# Altium footprint library TX_fsi6.PcbLib: 25 footprints (part 1 of 2)
Each footprint in its own frame and in the unit in brackets; x right, y up, seen from the top. Pads: shape width x height; smd on the part's side, far side on the other; paste and mask are expansions set on the pad; w line width, h text height; cw(c..) or ccw(c..) is an arc to the next point about the centre after c.
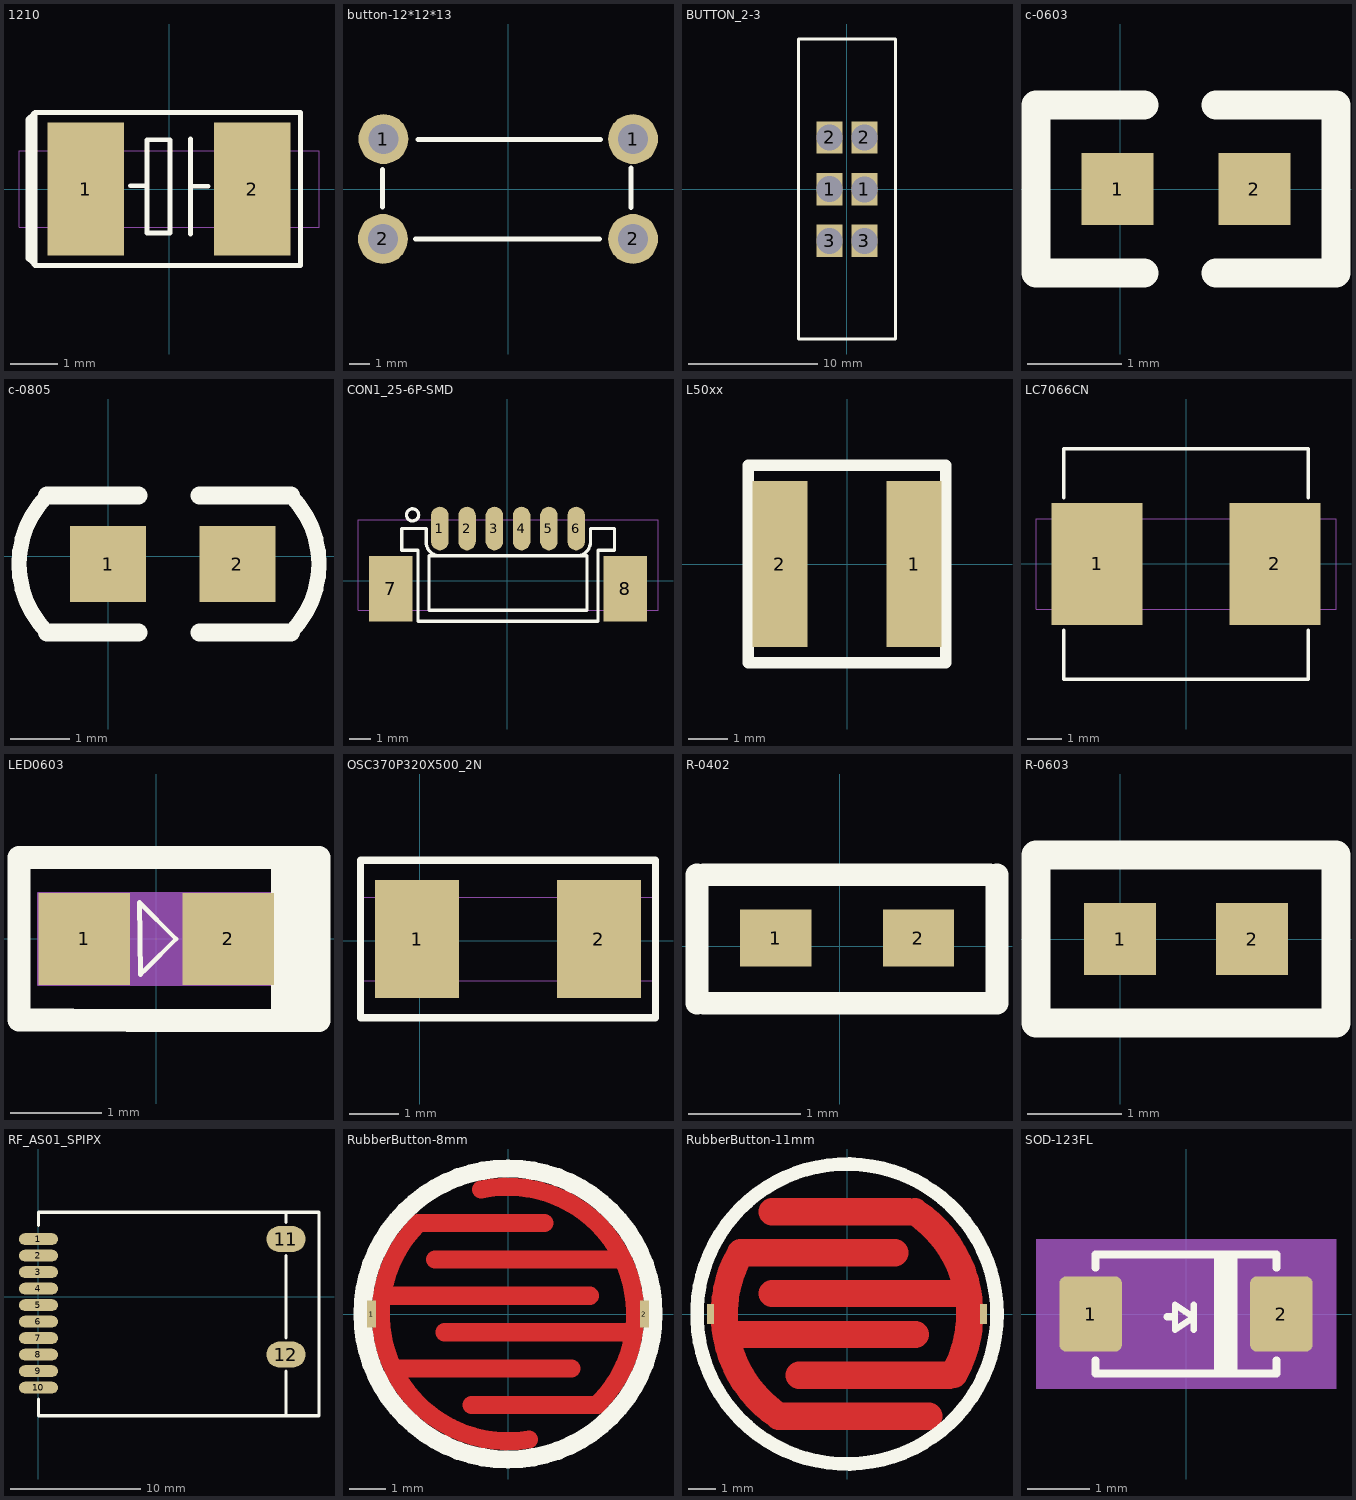
[diagram p0: the footprints below, top view; thin cyan lines are the x and y axes]

## 1210 [mil] "1210"
height 17.72
pads (2):
  rect 63x110 smd: 1(-68.7,0) 2(68.7,0)
Top Overlay:
  lines w3.94: -115.43,-58.27 -116.38,-57.32 -116.38,57.48 -111.71,62.15 ; -112.76,60.63 -113.78,59.61 -113.78,-59.61 -110.65,-62.74 ; -32.01,2.64 -20.2,2.64 ; 17.68,-37.17 17.68,41.46 ; 18.46,2.36 32.44,2.36 ; -110.43,-62.99 -110.43,62.99 108.43,62.99 108.43,-62.99 -110.43,-62.99 ; -18.15,-36.34 0.91,-36.34 0.91,40.67 -18.15,40.67 -18.15,-36.34
Mechanical 10:
  text "2" at 58.7,0 h25
  text "1" at -78.7,0 h25
Mechanical 11:
  lines w1: -123.7,-31.5 -123.7,31.5 123.7,31.5 123.7,-31.5 -123.7,-31.5
Mechanical 12:
  lines w1: -123.7,-31.5 -123.7,31.5 123.7,31.5 123.7,-31.5 -123.7,-31.5

## button-12*12*13 [mm]
pads (4):
  round 2.5 hole 1.5: 1(-6.248,2.515) 1(6.248,2.515) 2(-6.274,-2.489) 2(6.248,-2.489)
Top Overlay:
  lines w0.254: -6.299,-0.889 -6.299,0.991 ; -4.648,-2.489 4.572,-2.489 ; -4.521,2.489 4.623,2.489 ; 6.147,-0.914 6.147,1.067

## BUTTON_2-3 [mm]
pads (6):
  rect 2x2.5 hole 2: 1(-1.346,-0.012) 1(1.346,-0.025) 2(-1.346,3.988) 2(1.354,3.988) 3(-1.346,-4.012) 3(1.346,-4.013)
Top Overlay:
  lines w0.254: -3.75,11.558 -3.75,11.25 -3.75,-11.6 0,-11.6 3.759,-11.6 ; -3.75,11.6 0,11.6 3.75,11.6 ; 3.75,11.582 3.759,-11.582

## c-0603 [mil]
height 17.72
pads (2):
  rect 30x30 smd: 1(-1,0) 2(56,0)
Top Overlay:
  lines w12: 10,-35 -35,-35 -35,35 10,35 ; 40,-35 90,-35 90,35 40,35
3D body: height 35.43, standoff 0, extent -3.94,-15.75 59.06,15.75

## c-0805 [mil]
height 17.72
pads (2):
  rect 50x50 smd: 1(0,-5) 2(85,-5)
Top Overlay:
  lines w10: -40,-50 cw(c5,-5) -40,40 ; 120,-50 ccw(c75,-5) 120,40
  lines w12: -40,-50 20,-50 ; -40,40 20,40 ; 60,-50 120,-50 ; 60,40 120,40
3D body: height 23.62, standoff 0, extent 2.94,-29.53 81.68,19.68

## CON1_25-6P-SMD [mil]
height 17.72
pads (8):
  oval 31.5x78.7 smd: 1(-122,94) 2(-72.8,94) 3(-23.6,94) 4(25.6,94) 5(74.8,94) 6(124.1,94)
  rect 78.7x118.1 smd: 7(-210.6,-14.3) 8(212.6,-14.3)
Top Overlay:
  circle w5.9: c-171.2,118.6 r11
  lines w5.9: -190.9,54.6 -161.4,54.6 -161.4,-73.3 163.4,-73.3 163.4,54.6 193,54.6 193,94 149.7,94 149.7,69.4 cw(c125.1,69.4) 125,44.8 -122,44.8 cw(c-122,69.4) -146.6,69.4 -146.6,94 -190.9,94 -190.9,54.6 ; -141.7,-53.6 -141.7,44.8 143.7,44.8 143.7,-53.6 -141.7,-53.6
Mechanical 5:
  text "8" at 202.6,-14.3 h25
  text "7" at -220.6,-14.3 h25
  text "6" at 114.1,94 h25
  text "5" at 64.8,94 h25
  text "4" at 15.6,94 h25
  text "3" at -33.6,94 h25
  text "2" at -82.8,94 h25
  text "1" at -132,94 h25
Mechanical 6:
  lines w1: -269.6,-53.6 271.7,-53.6 271.7,109.7 -269.6,109.7 -269.6,-53.6
Mechanical 7:
  lines w1: -269.6,-53.6 271.7,-53.6 271.7,109.7 -269.6,109.7 -269.6,-53.6

## L50xx [mm]
pads (2):
  rect 1.4x4.2 smd: 1(1.7,0) 2(-1.7,0)
Top Overlay:
  lines w0.3: -2.5,-2.5 2.5,-2.5 2.5,2.5 -2.5,2.5 -2.5,-2.5

## LC7066CN [mm] "LC7066CN"
height 0.45
pads (2):
  rect 2.6x3.5 smd: 1(-2.55,0) 2(2.55,0)
Top Overlay:
  lines w0.1: -3.5,-1.9 -3.5,-3.3 3.5,-3.3 3.5,-1.9 ; -3.5,1.9 -3.5,3.3 3.5,3.3 3.5,1.9
Mechanical 14:
  lines w0.025: -4.3,-1.3 -4.3,1.3 4.3,1.3 4.3,-1.3 -4.3,-1.3
Mechanical 15:
  lines w0.025: -4.3,-1.3 -4.3,1.3 4.3,1.3 4.3,-1.3 -4.3,-1.3

## LED0603 [mm] "LED0603"
height 0.45
pads (2):
  rect 1x1 smd: 1(-0.787,0) 2(0.787,0)
Top Overlay:
  lines w0.051: -0.183,0.399 -0.172,-0.388 -0.111,-0.327 0.216,0 -0.183,0.399
  lines w0.254: -1.499,-0.882 -0.305,-0.889 0.305,-0.889 1.778,-0.889 1.778,0.889 0.305,0.889 -0.305,0.889 -1.499,0.889 -1.499,-0.882 ; 1.381,-0.889 1.381,0.879 1.391,0.889 1.565,0.889 1.565,-0.889 1.381,-0.889
Mechanical 11:
  lines w0.025: -1.287,-0.5 1.287,-0.5 1.287,0.5 -1.287,0.5 -1.287,-0.5
Mechanical 12:
  region: -1.287,-0.5 1.287,-0.5 1.287,0.5 -1.287,0.5

## OSC370P320X500_2N [mm]
height 0.45
pads (2):
  rect 1.7x2.4 smd: 1(-0.052,0.032) 2(3.648,0.032)
Top Overlay:
  lines w0.15: -1.202,-1.568 -1.202,1.632 4.798,1.632 4.798,-1.568 -1.202,-1.568
Mechanical 5:
  text "2" at 3.394,0.032 h0.64
  text "1" at -0.306,0.032 h0.64
Mechanical 6:
  lines w0.025: -1.252,-0.818 4.848,-0.818 4.848,0.882 -1.252,0.882 -1.252,-0.818
Mechanical 7:
  lines w0.025: -1.252,-0.818 4.848,-0.818 4.848,0.882 -1.252,0.882 -1.252,-0.818

## R-0402 [mil]
pads (2):
  rect 25x20 smd: 1(-22.48,2.83) 2(27.52,2.83)
Top Overlay:
  lines w8: -50,-20 -50,25 ; -47.52,-20 -10,-20 17.52,-20 55,-20 55,25 ; -47.52,25 -10,25 15,25 52.48,25
3D body: height 13.78, standoff 0, extent -17.68,-7 21.68,12.69

## R-0603 [mil]
height 17.72
pads (2):
  rect 30x30 smd: 1(0,0) 2(55,0)
Top Overlay:
  lines w12: -35,-35 -35,35 10,35 40,35 90,35 90,-35 40,-35 10,-35 -35,-35
3D body: height 17.72, standoff 0, extent -3,-16 59.99,16.28

## RF_AS01_SPIPX [mm]
pads (12):
  oval 3x0.9 smd: 1(0,4.445) 2(0,3.175) 3(0,1.905) 4(0,0.635) 5(0,-0.635) 6(0,-1.905) 7(0,-3.175) 8(0,-4.445) 9(0,-5.715) 10(0,-6.985)
  oval 3x2 smd: 11(19.05,4.445) 12(19.05,-4.445)
Top Overlay:
  lines w0.254: 0,-7.874 0,-9.144 19.05,-9.144 ; 0,5.5 0,6.5 19.05,6.5 ; 19.05,-5.715 19.05,-9.144 ; 19.05,-3.175 19.05,3.175 ; 19.05,5.715 19.05,6.5 ; 21.59,6.477 21.59,-9.144 19.05,-9.144 ; 21.59,6.5 19.05,6.5

## RubberButton-8mm [mm]
pads (2):
  rect 0.25x0.75 smd: 1(-3.75,0) 2(3.75,0)
Top Layer:
  lines w0.5: -3.25,0.5 2.25,0.5 ; -3,-1.5 1.75,-1.5 ; -2.475,2.475 ccw(c0,0) 0.575,-3.452 ; -2.475,2.5 1,2.5 ; -2,1.5 3,1.5 ; -1.75,-0.5 3.25,-0.5 ; -1,-2.5 2.475,-2.5 ; -0.733,3.422 cw(c0,0) 2.475,-2.475
Top Overlay:
  circle w0.5: c0,0 r4
Top Solder:
  lines w0.65: -3.25,0.5 2.25,0.5 ; -3,-1.5 1.75,-1.5 ; -2.475,2.475 ccw(c0,0) 0.575,-3.452 ; -2.475,2.5 1,2.5 ; -2,1.5 3,1.5 ; -1.75,-0.5 3.25,-0.5 ; -1,-2.5 2.475,-2.5 ; -0.733,3.422 cw(c0,0) 2.475,-2.475

## RubberButton-11mm [mm]
pads (2):
  rect 0.25x0.75 smd: 1(-5,0) 2(5,0)
Top Layer:
  lines w1: -4,-0.75 2.5,-0.75 ; -3.907,2.233 ccw(c0,0) -2.496,-3.744 ; -3.907,2.25 1.75,2.25 ; -2.75,0.75 4.25,0.75 ; -2.75,3.75 2.25,3.75 ; -2.5,-3.75 3,-3.75 ; -1.75,-2.25 3.75,-2.25 ; 2.496,3.744 cw(c0,0) 3.922,-2.206
Top Overlay:
  circle w0.5: c0,0 r5.5
Top Solder:
  lines w1: -4,-0.75 2.5,-0.75 ; -3.907,2.233 ccw(c0,0) -2.496,-3.744 ; -3.907,2.25 1.75,2.25 ; -2.75,0.75 4.25,0.75 ; -2.75,3.75 2.25,3.75 ; -2.5,-3.75 3,-3.75 ; -1.75,-2.25 3.75,-2.25 ; 2.496,3.744 cw(c0,0) 3.922,-2.206

## SOD-123FL [mm] "SOD-123FL"
height 0.45
pads (2):
  rrect20% 1x1.2 smd: 1(-1.525,0) 2(1.525,0)
Top Overlay:
  lines w0.1: 0.124,-0.254 0.124,0.146 ; -0.176,-0.254 0.124,-0.054 -0.176,0.146 -0.176,-0.254
  lines w0.125: -0.296,-0.044 -0.196,-0.044
  lines w0.127: -1.45,-0.74 -1.45,-0.95 1.45,-0.95 1.45,-0.74 ; -1.45,0.74 -1.45,0.95 1.45,0.95 1.45,0.74 ; 0.508,0.889 0.508,-0.889 0.635,-0.889 0.635,0.889 0.762,0.889 0.762,-0.889
  text ".Designator" at -0.102,-1.575 h0.64
Mechanical 10:
  text "1" at -1.525,0.183 h0.46
  text "2" at 1.525,0.183 h0.46
Mechanical 14:
  pour cut-out: 1.5,-1 1.5,1 0.9,1 0.9,-1
  lines w0.025: -1.5,-1 -1.5,1 1.5,1 1.5,-1 -1.5,-1
  lines w0.1: 0.124,-0.254 0.124,0.146 ; -0.176,-0.254 0.124,-0.054 -0.176,0.146 -0.176,-0.254
  lines w0.125: -0.296,-0.044 -0.196,-0.044 ; 0.104,-0.044 0.204,-0.044
  text "SMF12AG" at 1.016,0.127 h0.64
Mechanical 15:
  region: -2.4,1.2 -2.4,-1.2 2.4,-1.2 2.4,1.2